# Altium integrated library Linear Technology Power Management Switching Regulator LT1074-LT8705.IntLib: 2252 symbols (part 123 of 148)
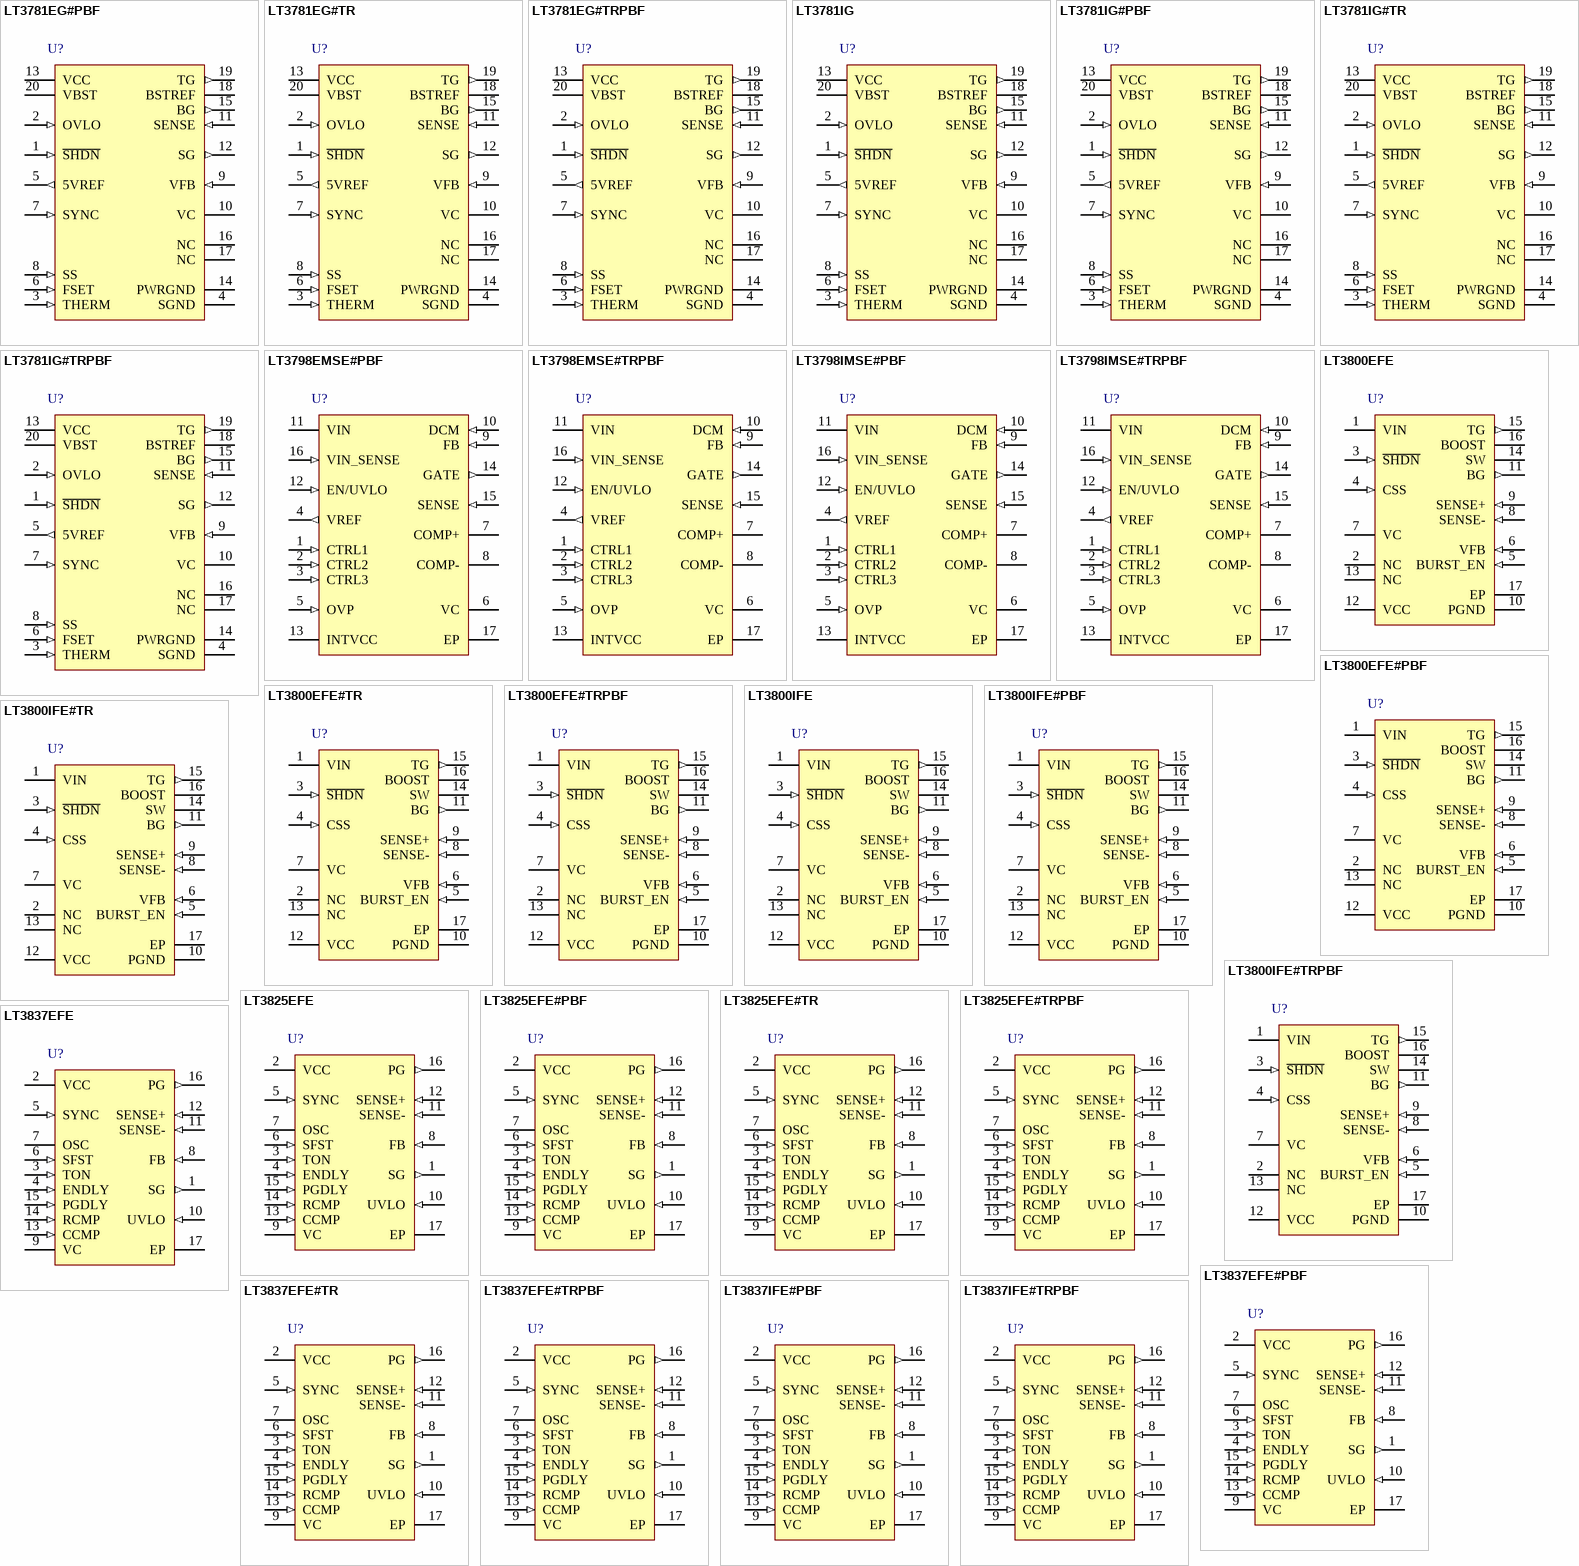
[diagram p193: symbols LT3781EG#PBF to LT3837IFE#TRPBF]

## LT3798IMSE#TRPBF
designator U?
Isolated No Opto-Coupler Flyback Controller with Active PFC, 16-pin SOP (MSE-16-EDP), -40 to 125 degC, Pb-Free, Tape and Reel; Manufacturer: Linear Technology; PartNumber: LT3798IMSE#TRPBF; Number of Outputs: 1; DatasheetVersion: Rev. A; PackageVersion: Rev. F, 05/2013; PackageReference: MSE-16; PackageDescription: 16-Pin Plastic MSOP, Exposed Die Pad, Body 4.039 x 3 mm, Pitch 0.5 mm; Supplier 1: Digi-Key; Supplier Part Number 1: LT3798IMSE#TRPBF-ND; Packing: Tape and Reel; RoHS: TRUE; Mounting Technology: Surface Mount; ComponentLink1Description: Manufacturer URL; ComponentLink1URL: http://www.linear.com/; ComponentLink2Description: Datasheet; ComponentLink2URL: http://cds.linear.com/docs/en/datasheet/3798fa.pdf; ComponentLink3Description: Package Specification; ComponentLink3URL: http://cds.linear.com/docs/en/packaging/05081667_F_MSE16.pdf
footprint LT-MSE-16-EDP_N (SOP, 16-Leads, Body 4.1x3.1mm, Pitch 0.5mm, Thermal Pad 2.95x1.76mm, IPC Medium Density)
footprint LT-MSE-16-EDP_L (SOP, 16-Leads, Body 4.1x3.1mm, Pitch 0.5mm, Thermal Pad 2.95x1.76mm, IPC High Density)
footprint LT-MSE-16-EDP_M (SOP, 16-Leads, Body 4.1x3.1mm, Pitch 0.5mm, Thermal Pad 2.95x1.76mm, IPC Low Density)
pins: 1 CTRL1 (in) "Current Output Adjustment Pins. These pins control the output current. The lowest value out of the three CTRL inputs is compared to negative input of the operational amplifier.", 2 CTRL2 (in) "Current Output Adjustment Pins. These pins control the output current. The lowest value out of the three CTRL inputs is compared to negative input of the operational amplifier.", 3 CTRL3 (in) "Current Output Adjustment Pins. These pins control the output current. The lowest value out of the three CTRL inputs is compared to negative input of the operational amplifier.", 4 VREF (out) "Voltage Reference Output Pin. Typically 2V. This pin drives a resistor divider for the CTRL pin, either for analog dimming or for temperature limit/compensation of output load. Can supply up to 200uA.", 5 OVP (in) "Overvoltage Protection. This pin accepts a DC voltage to compare to the sample and hold’s voltage output information. When output voltage information is above the OVP, the part divides the minimum switching frequency by 8(See Datasheet)", 6 VC "Compensation Pin for Internal Error Amplifier. Connect a series RC from this pin to ground to compensate the switching regulator. A 100pF capacitor in parallel helps eliminate noise.", 7 COMP+ "Compensation Pins for Internal Error Amplifier. Connect a capacitor between these two pins to compensate the internal feedback loop.", 8 COMP- "Compensation Pins for Internal Error Amplifier. Connect a capacitor between these two pins to compensate the internal feedback loop.", 9 FB (in) "Voltage Loop Feedback Pin. FB is used to regulate the output voltage by sampling the third winding. If the converter is used in current mode, the FB pin will normally be at a voltage level lower than 1.25V, and will reach (See Datasheet)", 10 DCM (in) "Discontinuous Conduction Mode Detection Pin. Connect a capacitor and resistor in series with this pin to the third winding.", 11 VIN (power) "Input Voltage. This pin supplies current to the internal start-up circuitry and to the INTVCC LDO. This pin must be locally bypassed with a capacitor. A 42V shunt regulator is internally connected to this pin.", 12 EN/UVLO (in) "Enable/Undervoltage Lockout. A resistor divider connected to VIN is tied to this pin to program the minimum input voltage at which the LT3798 will turn on. When below 1.25V, the part will draw 60uA with most of the internal (See Datasheet)", 13 INTVCC (power) "Regulated Supply for Internal Loads and GATE Driver. Supplied from VIN and regulates to 10V (typical). INTVCC must be bypassed with a 4.7uF capacitor placed close to the pin.", 14 GATE (out) "N-Channel FET Gate Driver Output. Switches between INTVCC and GND. Driven to GND during shutdown state and stays high during low voltage states.", 15 SENSE (in) "The Current Sense Input for the Control Loop. Kelvin connect this pin to the positive terminal of the switch current sense resistor, RSENSE, in the source of the NFET. The negative terminal of the current sense resistor (See Datasheet)", 16 VIN_SENSE (in) "Line Voltage Sense Pin. The pin is used for sensing the AC line voltage to perform power factor correction. Connect a resistor in series with the line voltage to this pin. If no PFC is needed, connect this pin to INTVCC with (See Datasheet)", 17 EP (power) "Ground. The exposed pad of the package provides both electrical contact to ground and good thermal contact to the printed circuit board. The exposed pad must be soldered to the circuit board for proper operation."

## LT3800EFE
designator U?
High-Voltage Synchronous Current Mode Step-Down Controller MAX, 16-pin SOP (FE-16-EPV-BC), -40 to 125 degC; Manufacturer: Linear Technology; PartNumber: LT3800EFE; Number of Outputs: 1; DatasheetVersion: Rev. C; PackageVersion: Rev. J, 11/2012; PackageReference: FE-16; PackageDescription: 16-Pin Plastic TSSOP, Body 5 x 4.4 mm, Pitch 0.65 mm; RoHS: FALSE; Mounting Technology: Surface Mount; ComponentLink1Description: Manufacturer URL; ComponentLink1URL: http://www.linear.com/; ComponentLink2Description: Datasheet; ComponentLink2URL: http://cds.linear.com/docs/en/datasheet/3800fc.pdf; ComponentLink3Description: Package Specification; ComponentLink3URL: http://cds.linear.com/docs/en/packaging/05081663__J_FE16(BC).pdf
footprint LT-FE-16-EPV-BC_N (SOP, 16-Leads, Body 5.1x4.5mm, Pitch 0.65mm, Thermal Pad 3.58x2.94mm, IPC Medium Density)
footprint LT-FE-16-EPV-BC_L (SOP, 16-Leads, Body 5.1x4.5mm, Pitch 0.65mm, Thermal Pad 3.58x2.94mm, IPC High Density)
footprint LT-FE-16-EPV-BC_M (SOP, 16-Leads, Body 5.1x4.5mm, Pitch 0.65mm, Thermal Pad 3.58x2.94mm, IPC Low Density)
pins: 1 VIN (power) "Converter Input Supply.", 2 NC "No Connection.", 3 ~{SHDN} (in) "Precision Shutdown Pin. Enable threshold is 1.35V (rising) with 120mV of input hysteresis. When in shutdown mode, all internal IC functions are disabled. The precision threshold allows use of the S\H\D\N\ pin to incorporate (See Datasheet)", 4 CSS (in) "Soft-Start AC Coupling Capacitor Input. Connect capacitor (CSS) in series with a 200k resistor from pin to converter output (VOUT). Controls converter start-up output voltage slew rate (deltaVOUT/deltat). Slew rate (See Datasheet)", 5 BURST_EN (in) "Burst Mode Operation Enable Pin. This pin also controls reverse-inhibit mode of operation. When the pin voltage is below 0.5V, Burst Mode operation and reverse-current inhibit functions are enabled. When the pin voltage is (See Datasheet)", 6 VFB (in) "Error Amplifier Inverting Input. The noninverting input of the error amplifier is connected to an internal 1.231V reference. Desired converter output voltage (VOUT) is programmed by connecting a resistive divider from the (See Datasheet)", 7 VC "Error Amplifier Output. The voltage on the VC pin corresponds to the maximum (peak) switch current per oscillator cycle. The error amplifier is typically configured as an integrator by connecting an RC network from this pin (See Datasheet)", 8 SENSE- (in) "Negative Input for Current Sense Amplifier. Sensed inductor current limit set at +/-150mV across SENSE inputs.", 9 SENSE+ (in) "Positive Input for Current Sense Amplifier. Sensed inductor current limit set at +/-150mV across SENSE inputs.", 10 PGND (power) "High Current Ground Reference for Synchronous Switch. Current path from pin to negative terminal of VCC decoupling capacitor must not corrupt SGND.", 11 BG (out) "Synchronous Switch Gate Drive Output.", 12 VCC (power) "Internal Regulator Output. Most IC functions are powered from this pin. Driving this pin from an external source reduces VIN pin current to 20uA. This pin is decoupled with a low ESR 1uF capacitor to PGND. In shutdown mode, (See Datasheet)", 13 NC "No Connection.", 14 SW "Reference for VBOOST Supply and High Current Return for Bootstrapped Switch.", 15 TG (out) "Bootstrapped Switch Gate Drive Output.", 16 BOOST "Bootstrapped Supply - Maximum Operating Voltage (Ground Referred) to 75V. This pin is decoupled with a low ESR 1uF capacitor to pin SW. The voltage on the decoupling capacitor is refreshed through a rectifi er from either (See Datasheet)", 17 EP (power) "Low Noise Ground Reference. SGND connection is made through the exposed lead frame on back of TSSOP package which must be soldered to the PCB ground."

## LT3800EFE#PBF
designator U?
High-Voltage Synchronous Current Mode Step-Down Controller MAX, 16-pin SOP (FE-16-EPV-BC), -40 to 125 degC, Pb-Free; Manufacturer: Linear Technology; PartNumber: LT3800EFE#PBF; Number of Outputs: 1; DatasheetVersion: Rev. C; PackageVersion: Rev. J, 11/2012; PackageReference: FE-16; PackageDescription: 16-Pin Plastic TSSOP, Body 5 x 4.4 mm, Pitch 0.65 mm; Supplier 1: Digi-Key; Supplier Part Number 1: LT3800EFE#PBF-ND; Supplier 2: Farnell; Supplier Part Number 2: 1273821; Supplier 3: Newark; Supplier Part Number 3: 57M8609; RoHS: TRUE; Mounting Technology: Surface Mount; ComponentLink1Description: Manufacturer URL; ComponentLink1URL: http://www.linear.com/; ComponentLink2Description: Datasheet; ComponentLink2URL: http://cds.linear.com/docs/en/datasheet/3800fc.pdf; ComponentLink3Description: Package Specification; ComponentLink3URL: http://cds.linear.com/docs/en/packaging/05081663__J_FE16(BC).pdf
footprint LT-FE-16-EPV-BC_N (SOP, 16-Leads, Body 5.1x4.5mm, Pitch 0.65mm, Thermal Pad 3.58x2.94mm, IPC Medium Density)
footprint LT-FE-16-EPV-BC_L (SOP, 16-Leads, Body 5.1x4.5mm, Pitch 0.65mm, Thermal Pad 3.58x2.94mm, IPC High Density)
footprint LT-FE-16-EPV-BC_M (SOP, 16-Leads, Body 5.1x4.5mm, Pitch 0.65mm, Thermal Pad 3.58x2.94mm, IPC Low Density)
pins: 1 VIN (power) "Converter Input Supply.", 2 NC "No Connection.", 3 ~{SHDN} (in) "Precision Shutdown Pin. Enable threshold is 1.35V (rising) with 120mV of input hysteresis. When in shutdown mode, all internal IC functions are disabled. The precision threshold allows use of the S\H\D\N\ pin to incorporate (See Datasheet)", 4 CSS (in) "Soft-Start AC Coupling Capacitor Input. Connect capacitor (CSS) in series with a 200k resistor from pin to converter output (VOUT). Controls converter start-up output voltage slew rate (deltaVOUT/deltat). Slew rate (See Datasheet)", 5 BURST_EN (in) "Burst Mode Operation Enable Pin. This pin also controls reverse-inhibit mode of operation. When the pin voltage is below 0.5V, Burst Mode operation and reverse-current inhibit functions are enabled. When the pin voltage is (See Datasheet)", 6 VFB (in) "Error Amplifier Inverting Input. The noninverting input of the error amplifier is connected to an internal 1.231V reference. Desired converter output voltage (VOUT) is programmed by connecting a resistive divider from the (See Datasheet)", 7 VC "Error Amplifier Output. The voltage on the VC pin corresponds to the maximum (peak) switch current per oscillator cycle. The error amplifier is typically configured as an integrator by connecting an RC network from this pin (See Datasheet)", 8 SENSE- (in) "Negative Input for Current Sense Amplifier. Sensed inductor current limit set at +/-150mV across SENSE inputs.", 9 SENSE+ (in) "Positive Input for Current Sense Amplifier. Sensed inductor current limit set at +/-150mV across SENSE inputs.", 10 PGND (power) "High Current Ground Reference for Synchronous Switch. Current path from pin to negative terminal of VCC decoupling capacitor must not corrupt SGND.", 11 BG (out) "Synchronous Switch Gate Drive Output.", 12 VCC (power) "Internal Regulator Output. Most IC functions are powered from this pin. Driving this pin from an external source reduces VIN pin current to 20uA. This pin is decoupled with a low ESR 1uF capacitor to PGND. In shutdown mode, (See Datasheet)", 13 NC "No Connection.", 14 SW "Reference for VBOOST Supply and High Current Return for Bootstrapped Switch.", 15 TG (out) "Bootstrapped Switch Gate Drive Output.", 16 BOOST "Bootstrapped Supply - Maximum Operating Voltage (Ground Referred) to 75V. This pin is decoupled with a low ESR 1uF capacitor to pin SW. The voltage on the decoupling capacitor is refreshed through a rectifi er from either (See Datasheet)", 17 EP (power) "Low Noise Ground Reference. SGND connection is made through the exposed lead frame on back of TSSOP package which must be soldered to the PCB ground."

## LT3800EFE#TR
designator U?
High-Voltage Synchronous Current Mode Step-Down Controller MAX, 16-pin SOP (FE-16-EPV-BC), -40 to 125 degC, Tape and Reel; Manufacturer: Linear Technology; PartNumber: LT3800EFE#TR; Number of Outputs: 1; DatasheetVersion: Rev. C; PackageVersion: Rev. J, 11/2012; PackageReference: FE-16; PackageDescription: 16-Pin Plastic TSSOP, Body 5 x 4.4 mm, Pitch 0.65 mm; Packing: Tape and Reel; RoHS: FALSE; Mounting Technology: Surface Mount; ComponentLink1Description: Manufacturer URL; ComponentLink1URL: http://www.linear.com/; ComponentLink2Description: Datasheet; ComponentLink2URL: http://cds.linear.com/docs/en/datasheet/3800fc.pdf; ComponentLink3Description: Package Specification; ComponentLink3URL: http://cds.linear.com/docs/en/packaging/05081663__J_FE16(BC).pdf
footprint LT-FE-16-EPV-BC_N (SOP, 16-Leads, Body 5.1x4.5mm, Pitch 0.65mm, Thermal Pad 3.58x2.94mm, IPC Medium Density)
footprint LT-FE-16-EPV-BC_L (SOP, 16-Leads, Body 5.1x4.5mm, Pitch 0.65mm, Thermal Pad 3.58x2.94mm, IPC High Density)
footprint LT-FE-16-EPV-BC_M (SOP, 16-Leads, Body 5.1x4.5mm, Pitch 0.65mm, Thermal Pad 3.58x2.94mm, IPC Low Density)
pins: 1 VIN (power) "Converter Input Supply.", 2 NC "No Connection.", 3 ~{SHDN} (in) "Precision Shutdown Pin. Enable threshold is 1.35V (rising) with 120mV of input hysteresis. When in shutdown mode, all internal IC functions are disabled. The precision threshold allows use of the S\H\D\N\ pin to incorporate (See Datasheet)", 4 CSS (in) "Soft-Start AC Coupling Capacitor Input. Connect capacitor (CSS) in series with a 200k resistor from pin to converter output (VOUT). Controls converter start-up output voltage slew rate (deltaVOUT/deltat). Slew rate (See Datasheet)", 5 BURST_EN (in) "Burst Mode Operation Enable Pin. This pin also controls reverse-inhibit mode of operation. When the pin voltage is below 0.5V, Burst Mode operation and reverse-current inhibit functions are enabled. When the pin voltage is (See Datasheet)", 6 VFB (in) "Error Amplifier Inverting Input. The noninverting input of the error amplifier is connected to an internal 1.231V reference. Desired converter output voltage (VOUT) is programmed by connecting a resistive divider from the (See Datasheet)", 7 VC "Error Amplifier Output. The voltage on the VC pin corresponds to the maximum (peak) switch current per oscillator cycle. The error amplifier is typically configured as an integrator by connecting an RC network from this pin (See Datasheet)", 8 SENSE- (in) "Negative Input for Current Sense Amplifier. Sensed inductor current limit set at +/-150mV across SENSE inputs.", 9 SENSE+ (in) "Positive Input for Current Sense Amplifier. Sensed inductor current limit set at +/-150mV across SENSE inputs.", 10 PGND (power) "High Current Ground Reference for Synchronous Switch. Current path from pin to negative terminal of VCC decoupling capacitor must not corrupt SGND.", 11 BG (out) "Synchronous Switch Gate Drive Output.", 12 VCC (power) "Internal Regulator Output. Most IC functions are powered from this pin. Driving this pin from an external source reduces VIN pin current to 20uA. This pin is decoupled with a low ESR 1uF capacitor to PGND. In shutdown mode, (See Datasheet)", 13 NC "No Connection.", 14 SW "Reference for VBOOST Supply and High Current Return for Bootstrapped Switch.", 15 TG (out) "Bootstrapped Switch Gate Drive Output.", 16 BOOST "Bootstrapped Supply - Maximum Operating Voltage (Ground Referred) to 75V. This pin is decoupled with a low ESR 1uF capacitor to pin SW. The voltage on the decoupling capacitor is refreshed through a rectifi er from either (See Datasheet)", 17 EP (power) "Low Noise Ground Reference. SGND connection is made through the exposed lead frame on back of TSSOP package which must be soldered to the PCB ground."

## LT3800EFE#TRPBF
designator U?
High-Voltage Synchronous Current Mode Step-Down Controller MAX, 16-pin SOP (FE-16-EPV-BC), -40 to 125 degC, Pb-Free, Tape and Reel; Manufacturer: Linear Technology; PartNumber: LT3800EFE#TRPBF; Number of Outputs: 1; DatasheetVersion: Rev. C; PackageVersion: Rev. J, 11/2012; PackageReference: FE-16; PackageDescription: 16-Pin Plastic TSSOP, Body 5 x 4.4 mm, Pitch 0.65 mm; Supplier 1: Digi-Key; Supplier Part Number 1: LT3800EFE#TRPBF-ND; Supplier 2: Newark; Supplier Part Number 2: 57M8611; Packing: Tape and Reel; RoHS: TRUE; Mounting Technology: Surface Mount; ComponentLink1Description: Manufacturer URL; ComponentLink1URL: http://www.linear.com/; ComponentLink2Description: Datasheet; ComponentLink2URL: http://cds.linear.com/docs/en/datasheet/3800fc.pdf; ComponentLink3Description: Package Specification; ComponentLink3URL: http://cds.linear.com/docs/en/packaging/05081663__J_FE16(BC).pdf
footprint LT-FE-16-EPV-BC_N (SOP, 16-Leads, Body 5.1x4.5mm, Pitch 0.65mm, Thermal Pad 3.58x2.94mm, IPC Medium Density)
footprint LT-FE-16-EPV-BC_L (SOP, 16-Leads, Body 5.1x4.5mm, Pitch 0.65mm, Thermal Pad 3.58x2.94mm, IPC High Density)
footprint LT-FE-16-EPV-BC_M (SOP, 16-Leads, Body 5.1x4.5mm, Pitch 0.65mm, Thermal Pad 3.58x2.94mm, IPC Low Density)
pins: 1 VIN (power) "Converter Input Supply.", 2 NC "No Connection.", 3 ~{SHDN} (in) "Precision Shutdown Pin. Enable threshold is 1.35V (rising) with 120mV of input hysteresis. When in shutdown mode, all internal IC functions are disabled. The precision threshold allows use of the S\H\D\N\ pin to incorporate (See Datasheet)", 4 CSS (in) "Soft-Start AC Coupling Capacitor Input. Connect capacitor (CSS) in series with a 200k resistor from pin to converter output (VOUT). Controls converter start-up output voltage slew rate (deltaVOUT/deltat). Slew rate (See Datasheet)", 5 BURST_EN (in) "Burst Mode Operation Enable Pin. This pin also controls reverse-inhibit mode of operation. When the pin voltage is below 0.5V, Burst Mode operation and reverse-current inhibit functions are enabled. When the pin voltage is (See Datasheet)", 6 VFB (in) "Error Amplifier Inverting Input. The noninverting input of the error amplifier is connected to an internal 1.231V reference. Desired converter output voltage (VOUT) is programmed by connecting a resistive divider from the (See Datasheet)", 7 VC "Error Amplifier Output. The voltage on the VC pin corresponds to the maximum (peak) switch current per oscillator cycle. The error amplifier is typically configured as an integrator by connecting an RC network from this pin (See Datasheet)", 8 SENSE- (in) "Negative Input for Current Sense Amplifier. Sensed inductor current limit set at +/-150mV across SENSE inputs.", 9 SENSE+ (in) "Positive Input for Current Sense Amplifier. Sensed inductor current limit set at +/-150mV across SENSE inputs.", 10 PGND (power) "High Current Ground Reference for Synchronous Switch. Current path from pin to negative terminal of VCC decoupling capacitor must not corrupt SGND.", 11 BG (out) "Synchronous Switch Gate Drive Output.", 12 VCC (power) "Internal Regulator Output. Most IC functions are powered from this pin. Driving this pin from an external source reduces VIN pin current to 20uA. This pin is decoupled with a low ESR 1uF capacitor to PGND. In shutdown mode, (See Datasheet)", 13 NC "No Connection.", 14 SW "Reference for VBOOST Supply and High Current Return for Bootstrapped Switch.", 15 TG (out) "Bootstrapped Switch Gate Drive Output.", 16 BOOST "Bootstrapped Supply - Maximum Operating Voltage (Ground Referred) to 75V. This pin is decoupled with a low ESR 1uF capacitor to pin SW. The voltage on the decoupling capacitor is refreshed through a rectifi er from either (See Datasheet)", 17 EP (power) "Low Noise Ground Reference. SGND connection is made through the exposed lead frame on back of TSSOP package which must be soldered to the PCB ground."

## LT3800IFE
designator U?
High-Voltage Synchronous Current Mode Step-Down Controller MAX, 16-pin SOP (FE-16-EPV-BC), -40 to 125 degC; Manufacturer: Linear Technology; PartNumber: LT3800IFE; Number of Outputs: 1; DatasheetVersion: Rev. C; PackageVersion: Rev. J, 11/2012; PackageReference: FE-16; PackageDescription: 16-Pin Plastic TSSOP, Body 5 x 4.4 mm, Pitch 0.65 mm; Supplier 1: Newark; Supplier Part Number 1: 57M8612; RoHS: FALSE; Mounting Technology: Surface Mount; ComponentLink1Description: Manufacturer URL; ComponentLink1URL: http://www.linear.com/; ComponentLink2Description: Datasheet; ComponentLink2URL: http://cds.linear.com/docs/en/datasheet/3800fc.pdf; ComponentLink3Description: Package Specification; ComponentLink3URL: http://cds.linear.com/docs/en/packaging/05081663__J_FE16(BC).pdf
footprint LT-FE-16-EPV-BC_N (SOP, 16-Leads, Body 5.1x4.5mm, Pitch 0.65mm, Thermal Pad 3.58x2.94mm, IPC Medium Density)
footprint LT-FE-16-EPV-BC_L (SOP, 16-Leads, Body 5.1x4.5mm, Pitch 0.65mm, Thermal Pad 3.58x2.94mm, IPC High Density)
footprint LT-FE-16-EPV-BC_M (SOP, 16-Leads, Body 5.1x4.5mm, Pitch 0.65mm, Thermal Pad 3.58x2.94mm, IPC Low Density)
pins: 1 VIN (power) "Converter Input Supply.", 2 NC "No Connection.", 3 ~{SHDN} (in) "Precision Shutdown Pin. Enable threshold is 1.35V (rising) with 120mV of input hysteresis. When in shutdown mode, all internal IC functions are disabled. The precision threshold allows use of the S\H\D\N\ pin to incorporate (See Datasheet)", 4 CSS (in) "Soft-Start AC Coupling Capacitor Input. Connect capacitor (CSS) in series with a 200k resistor from pin to converter output (VOUT). Controls converter start-up output voltage slew rate (deltaVOUT/deltat). Slew rate (See Datasheet)", 5 BURST_EN (in) "Burst Mode Operation Enable Pin. This pin also controls reverse-inhibit mode of operation. When the pin voltage is below 0.5V, Burst Mode operation and reverse-current inhibit functions are enabled. When the pin voltage is (See Datasheet)", 6 VFB (in) "Error Amplifier Inverting Input. The noninverting input of the error amplifier is connected to an internal 1.231V reference. Desired converter output voltage (VOUT) is programmed by connecting a resistive divider from the (See Datasheet)", 7 VC "Error Amplifier Output. The voltage on the VC pin corresponds to the maximum (peak) switch current per oscillator cycle. The error amplifier is typically configured as an integrator by connecting an RC network from this pin (See Datasheet)", 8 SENSE- (in) "Negative Input for Current Sense Amplifier. Sensed inductor current limit set at +/-150mV across SENSE inputs.", 9 SENSE+ (in) "Positive Input for Current Sense Amplifier. Sensed inductor current limit set at +/-150mV across SENSE inputs.", 10 PGND (power) "High Current Ground Reference for Synchronous Switch. Current path from pin to negative terminal of VCC decoupling capacitor must not corrupt SGND.", 11 BG (out) "Synchronous Switch Gate Drive Output.", 12 VCC (power) "Internal Regulator Output. Most IC functions are powered from this pin. Driving this pin from an external source reduces VIN pin current to 20uA. This pin is decoupled with a low ESR 1uF capacitor to PGND. In shutdown mode, (See Datasheet)", 13 NC "No Connection.", 14 SW "Reference for VBOOST Supply and High Current Return for Bootstrapped Switch.", 15 TG (out) "Bootstrapped Switch Gate Drive Output.", 16 BOOST "Bootstrapped Supply - Maximum Operating Voltage (Ground Referred) to 75V. This pin is decoupled with a low ESR 1uF capacitor to pin SW. The voltage on the decoupling capacitor is refreshed through a rectifi er from either (See Datasheet)", 17 EP (power) "Low Noise Ground Reference. SGND connection is made through the exposed lead frame on back of TSSOP package which must be soldered to the PCB ground."

## LT3800IFE#PBF
designator U?
High-Voltage Synchronous Current Mode Step-Down Controller MAX, 16-pin SOP (FE-16-EPV-BC), -40 to 125 degC, Pb-Free; Manufacturer: Linear Technology; PartNumber: LT3800IFE#PBF; Number of Outputs: 1; DatasheetVersion: Rev. C; PackageVersion: Rev. J, 11/2012; PackageReference: FE-16; PackageDescription: 16-Pin Plastic TSSOP, Body 5 x 4.4 mm, Pitch 0.65 mm; Supplier 1: Digi-Key; Supplier Part Number 1: LT3800IFE#PBF-ND; Supplier 2: Farnell; Supplier Part Number 2: 2294960; Supplier 3: Newark; Supplier Part Number 3: 57M8613; RoHS: TRUE; Mounting Technology: Surface Mount; ComponentLink1Description: Manufacturer URL; ComponentLink1URL: http://www.linear.com/; ComponentLink2Description: Datasheet; ComponentLink2URL: http://cds.linear.com/docs/en/datasheet/3800fc.pdf; ComponentLink3Description: Package Specification; ComponentLink3URL: http://cds.linear.com/docs/en/packaging/05081663__J_FE16(BC).pdf
footprint LT-FE-16-EPV-BC_N (SOP, 16-Leads, Body 5.1x4.5mm, Pitch 0.65mm, Thermal Pad 3.58x2.94mm, IPC Medium Density)
footprint LT-FE-16-EPV-BC_L (SOP, 16-Leads, Body 5.1x4.5mm, Pitch 0.65mm, Thermal Pad 3.58x2.94mm, IPC High Density)
footprint LT-FE-16-EPV-BC_M (SOP, 16-Leads, Body 5.1x4.5mm, Pitch 0.65mm, Thermal Pad 3.58x2.94mm, IPC Low Density)
pins: 1 VIN (power) "Converter Input Supply.", 2 NC "No Connection.", 3 ~{SHDN} (in) "Precision Shutdown Pin. Enable threshold is 1.35V (rising) with 120mV of input hysteresis. When in shutdown mode, all internal IC functions are disabled. The precision threshold allows use of the S\H\D\N\ pin to incorporate (See Datasheet)", 4 CSS (in) "Soft-Start AC Coupling Capacitor Input. Connect capacitor (CSS) in series with a 200k resistor from pin to converter output (VOUT). Controls converter start-up output voltage slew rate (deltaVOUT/deltat). Slew rate (See Datasheet)", 5 BURST_EN (in) "Burst Mode Operation Enable Pin. This pin also controls reverse-inhibit mode of operation. When the pin voltage is below 0.5V, Burst Mode operation and reverse-current inhibit functions are enabled. When the pin voltage is (See Datasheet)", 6 VFB (in) "Error Amplifier Inverting Input. The noninverting input of the error amplifier is connected to an internal 1.231V reference. Desired converter output voltage (VOUT) is programmed by connecting a resistive divider from the (See Datasheet)", 7 VC "Error Amplifier Output. The voltage on the VC pin corresponds to the maximum (peak) switch current per oscillator cycle. The error amplifier is typically configured as an integrator by connecting an RC network from this pin (See Datasheet)", 8 SENSE- (in) "Negative Input for Current Sense Amplifier. Sensed inductor current limit set at +/-150mV across SENSE inputs.", 9 SENSE+ (in) "Positive Input for Current Sense Amplifier. Sensed inductor current limit set at +/-150mV across SENSE inputs.", 10 PGND (power) "High Current Ground Reference for Synchronous Switch. Current path from pin to negative terminal of VCC decoupling capacitor must not corrupt SGND.", 11 BG (out) "Synchronous Switch Gate Drive Output.", 12 VCC (power) "Internal Regulator Output. Most IC functions are powered from this pin. Driving this pin from an external source reduces VIN pin current to 20uA. This pin is decoupled with a low ESR 1uF capacitor to PGND. In shutdown mode, (See Datasheet)", 13 NC "No Connection.", 14 SW "Reference for VBOOST Supply and High Current Return for Bootstrapped Switch.", 15 TG (out) "Bootstrapped Switch Gate Drive Output.", 16 BOOST "Bootstrapped Supply - Maximum Operating Voltage (Ground Referred) to 75V. This pin is decoupled with a low ESR 1uF capacitor to pin SW. The voltage on the decoupling capacitor is refreshed through a rectifi er from either (See Datasheet)", 17 EP (power) "Low Noise Ground Reference. SGND connection is made through the exposed lead frame on back of TSSOP package which must be soldered to the PCB ground."

## LT3800IFE#TR
designator U?
High-Voltage Synchronous Current Mode Step-Down Controller MAX, 16-pin SOP (FE-16-EPV-BC), -40 to 125 degC, Tape and Reel; Manufacturer: Linear Technology; PartNumber: LT3800IFE#TR; Number of Outputs: 1; DatasheetVersion: Rev. C; PackageVersion: Rev. J, 11/2012; PackageReference: FE-16; PackageDescription: 16-Pin Plastic TSSOP, Body 5 x 4.4 mm, Pitch 0.65 mm; Packing: Tape and Reel; RoHS: FALSE; Mounting Technology: Surface Mount; ComponentLink1Description: Manufacturer URL; ComponentLink1URL: http://www.linear.com/; ComponentLink2Description: Datasheet; ComponentLink2URL: http://cds.linear.com/docs/en/datasheet/3800fc.pdf; ComponentLink3Description: Package Specification; ComponentLink3URL: http://cds.linear.com/docs/en/packaging/05081663__J_FE16(BC).pdf
footprint LT-FE-16-EPV-BC_N (SOP, 16-Leads, Body 5.1x4.5mm, Pitch 0.65mm, Thermal Pad 3.58x2.94mm, IPC Medium Density)
footprint LT-FE-16-EPV-BC_L (SOP, 16-Leads, Body 5.1x4.5mm, Pitch 0.65mm, Thermal Pad 3.58x2.94mm, IPC High Density)
footprint LT-FE-16-EPV-BC_M (SOP, 16-Leads, Body 5.1x4.5mm, Pitch 0.65mm, Thermal Pad 3.58x2.94mm, IPC Low Density)
pins: 1 VIN (power) "Converter Input Supply.", 2 NC "No Connection.", 3 ~{SHDN} (in) "Precision Shutdown Pin. Enable threshold is 1.35V (rising) with 120mV of input hysteresis. When in shutdown mode, all internal IC functions are disabled. The precision threshold allows use of the S\H\D\N\ pin to incorporate (See Datasheet)", 4 CSS (in) "Soft-Start AC Coupling Capacitor Input. Connect capacitor (CSS) in series with a 200k resistor from pin to converter output (VOUT). Controls converter start-up output voltage slew rate (deltaVOUT/deltat). Slew rate (See Datasheet)", 5 BURST_EN (in) "Burst Mode Operation Enable Pin. This pin also controls reverse-inhibit mode of operation. When the pin voltage is below 0.5V, Burst Mode operation and reverse-current inhibit functions are enabled. When the pin voltage is (See Datasheet)", 6 VFB (in) "Error Amplifier Inverting Input. The noninverting input of the error amplifier is connected to an internal 1.231V reference. Desired converter output voltage (VOUT) is programmed by connecting a resistive divider from the (See Datasheet)", 7 VC "Error Amplifier Output. The voltage on the VC pin corresponds to the maximum (peak) switch current per oscillator cycle. The error amplifier is typically configured as an integrator by connecting an RC network from this pin (See Datasheet)", 8 SENSE- (in) "Negative Input for Current Sense Amplifier. Sensed inductor current limit set at +/-150mV across SENSE inputs.", 9 SENSE+ (in) "Positive Input for Current Sense Amplifier. Sensed inductor current limit set at +/-150mV across SENSE inputs.", 10 PGND (power) "High Current Ground Reference for Synchronous Switch. Current path from pin to negative terminal of VCC decoupling capacitor must not corrupt SGND.", 11 BG (out) "Synchronous Switch Gate Drive Output.", 12 VCC (power) "Internal Regulator Output. Most IC functions are powered from this pin. Driving this pin from an external source reduces VIN pin current to 20uA. This pin is decoupled with a low ESR 1uF capacitor to PGND. In shutdown mode, (See Datasheet)", 13 NC "No Connection.", 14 SW "Reference for VBOOST Supply and High Current Return for Bootstrapped Switch.", 15 TG (out) "Bootstrapped Switch Gate Drive Output.", 16 BOOST "Bootstrapped Supply - Maximum Operating Voltage (Ground Referred) to 75V. This pin is decoupled with a low ESR 1uF capacitor to pin SW. The voltage on the decoupling capacitor is refreshed through a rectifi er from either (See Datasheet)", 17 EP (power) "Low Noise Ground Reference. SGND connection is made through the exposed lead frame on back of TSSOP package which must be soldered to the PCB ground."

## LT3800IFE#TRPBF
designator U?
High-Voltage Synchronous Current Mode Step-Down Controller MAX, 16-pin SOP (FE-16-EPV-BC), -40 to 125 degC, Pb-Free, Tape and Reel; Manufacturer: Linear Technology; PartNumber: LT3800IFE#TRPBF; Number of Outputs: 1; DatasheetVersion: Rev. C; PackageVersion: Rev. J, 11/2012; PackageReference: FE-16; PackageDescription: 16-Pin Plastic TSSOP, Body 5 x 4.4 mm, Pitch 0.65 mm; Supplier 1: Digi-Key; Supplier Part Number 1: LT3800IFE#TRPBF-ND; Supplier 2: Newark; Supplier Part Number 2: 57M8615; Packing: Tape and Reel; RoHS: TRUE; Mounting Technology: Surface Mount; ComponentLink1Description: Manufacturer URL; ComponentLink1URL: http://www.linear.com/; ComponentLink2Description: Datasheet; ComponentLink2URL: http://cds.linear.com/docs/en/datasheet/3800fc.pdf; ComponentLink3Description: Package Specification; ComponentLink3URL: http://cds.linear.com/docs/en/packaging/05081663__J_FE16(BC).pdf
footprint LT-FE-16-EPV-BC_N (SOP, 16-Leads, Body 5.1x4.5mm, Pitch 0.65mm, Thermal Pad 3.58x2.94mm, IPC Medium Density)
footprint LT-FE-16-EPV-BC_L (SOP, 16-Leads, Body 5.1x4.5mm, Pitch 0.65mm, Thermal Pad 3.58x2.94mm, IPC High Density)
footprint LT-FE-16-EPV-BC_M (SOP, 16-Leads, Body 5.1x4.5mm, Pitch 0.65mm, Thermal Pad 3.58x2.94mm, IPC Low Density)
pins: 1 VIN (power) "Converter Input Supply.", 2 NC "No Connection.", 3 ~{SHDN} (in) "Precision Shutdown Pin. Enable threshold is 1.35V (rising) with 120mV of input hysteresis. When in shutdown mode, all internal IC functions are disabled. The precision threshold allows use of the S\H\D\N\ pin to incorporate (See Datasheet)", 4 CSS (in) "Soft-Start AC Coupling Capacitor Input. Connect capacitor (CSS) in series with a 200k resistor from pin to converter output (VOUT). Controls converter start-up output voltage slew rate (deltaVOUT/deltat). Slew rate (See Datasheet)", 5 BURST_EN (in) "Burst Mode Operation Enable Pin. This pin also controls reverse-inhibit mode of operation. When the pin voltage is below 0.5V, Burst Mode operation and reverse-current inhibit functions are enabled. When the pin voltage is (See Datasheet)", 6 VFB (in) "Error Amplifier Inverting Input. The noninverting input of the error amplifier is connected to an internal 1.231V reference. Desired converter output voltage (VOUT) is programmed by connecting a resistive divider from the (See Datasheet)", 7 VC "Error Amplifier Output. The voltage on the VC pin corresponds to the maximum (peak) switch current per oscillator cycle. The error amplifier is typically configured as an integrator by connecting an RC network from this pin (See Datasheet)", 8 SENSE- (in) "Negative Input for Current Sense Amplifier. Sensed inductor current limit set at +/-150mV across SENSE inputs.", 9 SENSE+ (in) "Positive Input for Current Sense Amplifier. Sensed inductor current limit set at +/-150mV across SENSE inputs.", 10 PGND (power) "High Current Ground Reference for Synchronous Switch. Current path from pin to negative terminal of VCC decoupling capacitor must not corrupt SGND.", 11 BG (out) "Synchronous Switch Gate Drive Output.", 12 VCC (power) "Internal Regulator Output. Most IC functions are powered from this pin. Driving this pin from an external source reduces VIN pin current to 20uA. This pin is decoupled with a low ESR 1uF capacitor to PGND. In shutdown mode, (See Datasheet)", 13 NC "No Connection.", 14 SW "Reference for VBOOST Supply and High Current Return for Bootstrapped Switch.", 15 TG (out) "Bootstrapped Switch Gate Drive Output.", 16 BOOST "Bootstrapped Supply - Maximum Operating Voltage (Ground Referred) to 75V. This pin is decoupled with a low ESR 1uF capacitor to pin SW. The voltage on the decoupling capacitor is refreshed through a rectifi er from either (See Datasheet)", 17 EP (power) "Low Noise Ground Reference. SGND connection is made through the exposed lead frame on back of TSSOP package which must be soldered to the PCB ground."

## LT3825EFE
designator U?
Isolated No-Opto Synchronous Flyback Controller with Wide Input Supply Range, 16-pin SOP (FE-16-EPV-BC), -40 to 125 degC; Manufacturer: Linear Technology; PartNumber: LT3825EFE; Frequency Adjust Range: 50kHz - 250kHz; Number of Outputs: 1; DatasheetVersion: Rev. E; PackageVersion: Rev. J, 11/2012; PackageReference: FE-16; PackageDescription: 16-Pin Plastic TSSOP, Body 5 x 4.4 mm, Pitch 0.65 mm; RoHS: FALSE; Mounting Technology: Surface Mount; ComponentLink1Description: Manufacturer URL; ComponentLink1URL: http://www.linear.com/; ComponentLink2Description: Datasheet; ComponentLink2URL: http://cds.linear.com/docs/en/datasheet/3825fe.pdf; ComponentLink3Description: Package Specification; ComponentLink3URL: http://cds.linear.com/docs/en/packaging/05081663__J_FE16(BC).pdf
footprint LT-FE-16-EPV-BC_N (SOP, 16-Leads, Body 5.1x4.5mm, Pitch 0.65mm, Thermal Pad 3.58x2.94mm, IPC Medium Density)
footprint LT-FE-16-EPV-BC_L (SOP, 16-Leads, Body 5.1x4.5mm, Pitch 0.65mm, Thermal Pad 3.58x2.94mm, IPC High Density)
footprint LT-FE-16-EPV-BC_M (SOP, 16-Leads, Body 5.1x4.5mm, Pitch 0.65mm, Thermal Pad 3.58x2.94mm, IPC Low Density)
pins: 1 SG (out) "Synchronous Gate Drive Output. This pin provides an output signal for a secondary-side synchronous switch. Large dynamic currents may flow during voltage transitions. See the Applications Information for details.", 2 VCC (power) "Supply Voltage Pin. Bypass this pin to ground with a 4.7uF capacitor or more.", 3 TON (in) "Pin for external programming resistor to set the minimum time that the primary switch is on for each cycle. Minimum turn-on facilitates the isolated feedback method. See Applications Information for details.", 4 ENDLY (in) "Pin for external programming resistor to set enable delay time. The enable delay time disables the feedback amplifier for a fixed time after the turn-off of the primary-side MOSFET. This allows the leakage inductance voltage (See Datasheet)", 5 SYNC (in) "Pin for synchronizing the internal oscillator with an external clock. The positive edge on a pulse causes the oscillator to discharge causing PG to go low (off) and SG high (on). The sync threshold is typically 1.53V. See (See Datasheet)", 6 SFST (in) "This pin, in conjunction with a capacitor to ground, controls the ramp-up of peak primary current as sensed through the sense resistor. This is used to control converter inrush current at start-up. The VC pin voltage cannot (See Datasheet)", 7 OSC "This pin in conjunction with an external capacitor defines the controller oscillator frequency. The frequency is approximately 100kHz ?100/COSC(pF).", 8 FB (in) "Pin for the feedback node for the power supply feedback amplifier. Feedback is usually sensed via a third winding and enabled during the flyback period. This pin also sinks additional current to compensate for load current (See Datasheet)", 9 VC "Pin used for frequency compensation for the switcher control loop. It is the output of the feedback amplifier and the input to the current comparator. Switcher frequency compensation components are normally placed on this (See Datasheet)", 10 UVLO (in) "A resistive divider from VIN to this pin sets an undervoltage lockout based upon VIN level (not VCC). When the UVLO pin is below its threshold, the gate drives are disabled, but the part draws its normal quiescent current (See Datasheet)", 11 SENSE- (in) "These pins are used to measure primary-side switch current through an external sense resistor. Peak primary-side current is used in the converter control loop. Make Kelvin connections to the sense resistor to reduce noise (See Datasheet)", 12 SENSE+ (in) "These pins are used to measure primary-side switch current through an external sense resistor. Peak primary-side current is used in the converter control loop. Make Kelvin connections to the sense resistor to reduce noise (See Datasheet)", 13 CCMP (in) "Pin for external filter capacitor for the optional load compensation function. Load compensation reduces the effects of parasitic resistances in the feedback sensing path. A 0.1uF ceramic capacitor suffices for most (See Datasheet)", 14 RCMP (in) "Pin for optional external load compensation resistor. Use of this pin allows for nominal compensation of parasitic resistances in the feedback sensing path. In less demanding applications, this resistor is not needed and (See Datasheet)", 15 PGDLY (in) "Pin for external programming resistor to set delay from synchronous gate turn-off to primary gate turn-on. See Applications Information for details.", 16 PG (out) "Gate Drive Pin for the Primary-Side MOSFET Switch. Large dynamic currents flow during voltage transitions. See the Applications Information for details.", 17 EP (power)

## LT3825EFE#PBF
designator U?
Isolated No-Opto Synchronous Flyback Controller with Wide Input Supply Range, 16-pin SOP (FE-16-EPV-BC), -40 to 125 degC, Pb-Free; Manufacturer: Linear Technology; PartNumber: LT3825EFE#PBF; Frequency Adjust Range: 50kHz - 250kHz; Number of Outputs: 1; DatasheetVersion: Rev. E; PackageVersion: Rev. J, 11/2012; PackageReference: FE-16; PackageDescription: 16-Pin Plastic TSSOP, Body 5 x 4.4 mm, Pitch 0.65 mm; Supplier 1: Digi-Key; Supplier Part Number 1: LT3825EFE#PBF-ND; Supplier 2: Newark; Supplier Part Number 2: 57M8621; RoHS: TRUE; Mounting Technology: Surface Mount; ComponentLink1Description: Manufacturer URL; ComponentLink1URL: http://www.linear.com/; ComponentLink2Description: Datasheet; ComponentLink2URL: http://cds.linear.com/docs/en/datasheet/3825fe.pdf; ComponentLink3Description: Package Specification; ComponentLink3URL: http://cds.linear.com/docs/en/packaging/05081663__J_FE16(BC).pdf
footprint LT-FE-16-EPV-BC_N (SOP, 16-Leads, Body 5.1x4.5mm, Pitch 0.65mm, Thermal Pad 3.58x2.94mm, IPC Medium Density)
footprint LT-FE-16-EPV-BC_L (SOP, 16-Leads, Body 5.1x4.5mm, Pitch 0.65mm, Thermal Pad 3.58x2.94mm, IPC High Density)
footprint LT-FE-16-EPV-BC_M (SOP, 16-Leads, Body 5.1x4.5mm, Pitch 0.65mm, Thermal Pad 3.58x2.94mm, IPC Low Density)
pins: 1 SG (out) "Synchronous Gate Drive Output. This pin provides an output signal for a secondary-side synchronous switch. Large dynamic currents may flow during voltage transitions. See the Applications Information for details.", 2 VCC (power) "Supply Voltage Pin. Bypass this pin to ground with a 4.7uF capacitor or more.", 3 TON (in) "Pin for external programming resistor to set the minimum time that the primary switch is on for each cycle. Minimum turn-on facilitates the isolated feedback method. See Applications Information for details.", 4 ENDLY (in) "Pin for external programming resistor to set enable delay time. The enable delay time disables the feedback amplifier for a fixed time after the turn-off of the primary-side MOSFET. This allows the leakage inductance voltage (See Datasheet)", 5 SYNC (in) "Pin for synchronizing the internal oscillator with an external clock. The positive edge on a pulse causes the oscillator to discharge causing PG to go low (off) and SG high (on). The sync threshold is typically 1.53V. See (See Datasheet)", 6 SFST (in) "This pin, in conjunction with a capacitor to ground, controls the ramp-up of peak primary current as sensed through the sense resistor. This is used to control converter inrush current at start-up. The VC pin voltage cannot (See Datasheet)", 7 OSC "This pin in conjunction with an external capacitor defines the controller oscillator frequency. The frequency is approximately 100kHz ?100/COSC(pF).", 8 FB (in) "Pin for the feedback node for the power supply feedback amplifier. Feedback is usually sensed via a third winding and enabled during the flyback period. This pin also sinks additional current to compensate for load current (See Datasheet)", 9 VC "Pin used for frequency compensation for the switcher control loop. It is the output of the feedback amplifier and the input to the current comparator. Switcher frequency compensation components are normally placed on this (See Datasheet)", 10 UVLO (in) "A resistive divider from VIN to this pin sets an undervoltage lockout based upon VIN level (not VCC). When the UVLO pin is below its threshold, the gate drives are disabled, but the part draws its normal quiescent current (See Datasheet)", 11 SENSE- (in) "These pins are used to measure primary-side switch current through an external sense resistor. Peak primary-side current is used in the converter control loop. Make Kelvin connections to the sense resistor to reduce noise (See Datasheet)", 12 SENSE+ (in) "These pins are used to measure primary-side switch current through an external sense resistor. Peak primary-side current is used in the converter control loop. Make Kelvin connections to the sense resistor to reduce noise (See Datasheet)", 13 CCMP (in) "Pin for external filter capacitor for the optional load compensation function. Load compensation reduces the effects of parasitic resistances in the feedback sensing path. A 0.1uF ceramic capacitor suffices for most (See Datasheet)", 14 RCMP (in) "Pin for optional external load compensation resistor. Use of this pin allows for nominal compensation of parasitic resistances in the feedback sensing path. In less demanding applications, this resistor is not needed and (See Datasheet)", 15 PGDLY (in) "Pin for external programming resistor to set delay from synchronous gate turn-off to primary gate turn-on. See Applications Information for details.", 16 PG (out) "Gate Drive Pin for the Primary-Side MOSFET Switch. Large dynamic currents flow during voltage transitions. See the Applications Information for details.", 17 EP (power)